# EAGLE library part M74HC4052RM13TR (library ST Microelectronics)
ANALOG MULTIPLEXER/DEMULTIPLEXER
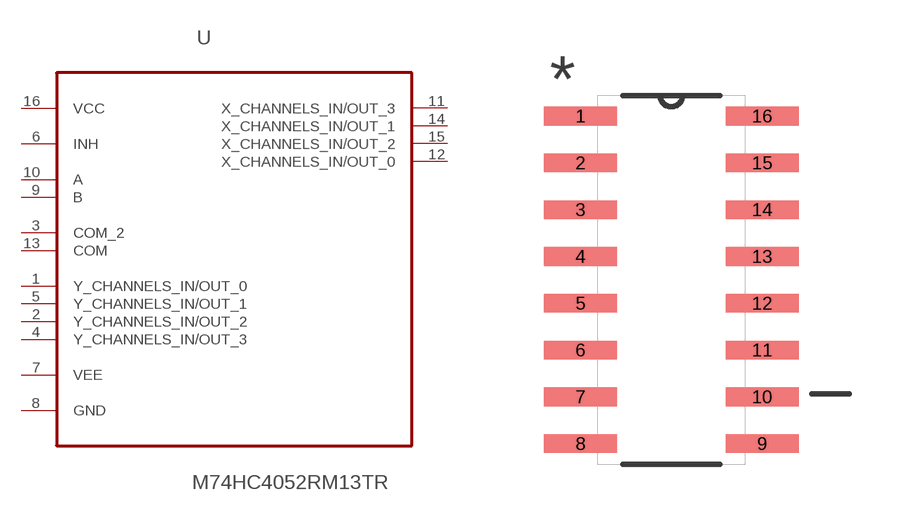
[diagram p236: symbol with the pads of SOIC127P600X175-16N; footprint SOIC127P600X175-16N]

Designator prefix U

## M74HC4052RM13TR (MPN: M74HC4052RM13TR; OC_FARNELL: -; OC_NEWARK: 89K0908; PACKAGE: SOIC-16; SUPPLIER: STMICROELECTRONICS)  [SOIC127P600X175-16N]
1  Y_CHANNELS_IN/OUT_0
2  Y_CHANNELS_IN/OUT_2
3  COM_2
4  Y_CHANNELS_IN/OUT_3
5  Y_CHANNELS_IN/OUT_1
6  INH  in
7  VEE  nc
8  GND  pas
9  B  in
10  A  in
11  X_CHANNELS_IN/OUT_3
12  X_CHANNELS_IN/OUT_0
13  COM
14  X_CHANNELS_IN/OUT_1
15  X_CHANNELS_IN/OUT_2
16  VCC  pwr

## Footprint SOIC127P600X175-16N (pad centres in mm)
smd 1.981 x 0.508: 1 -2.464,4.445; 2 -2.464,3.175; 3 -2.464,1.905; 4 -2.464,0.635; 5 -2.464,-0.635; 6 -2.464,-1.905; 7 -2.464,-3.175; 8 -2.464,-4.445; 9 2.464,-4.445; 10 2.464,-3.175; 11 2.464,-1.905; 12 2.464,-0.635; 13 2.464,0.635; 14 2.464,1.905; 15 2.464,3.175; 16 2.464,4.445